# Altium footprint library soed_new.PcbLib: 46 footprints (part 3 of 3)
Each footprint in its own frame and in the unit in brackets; x right, y up, seen from the top. Pads: shape width x height; smd on the part's side, far side on the other; paste and mask are expansions set on the pad; w line width, h text height; cw(c..) or ccw(c..) is an arc to the next point about the centre after c.
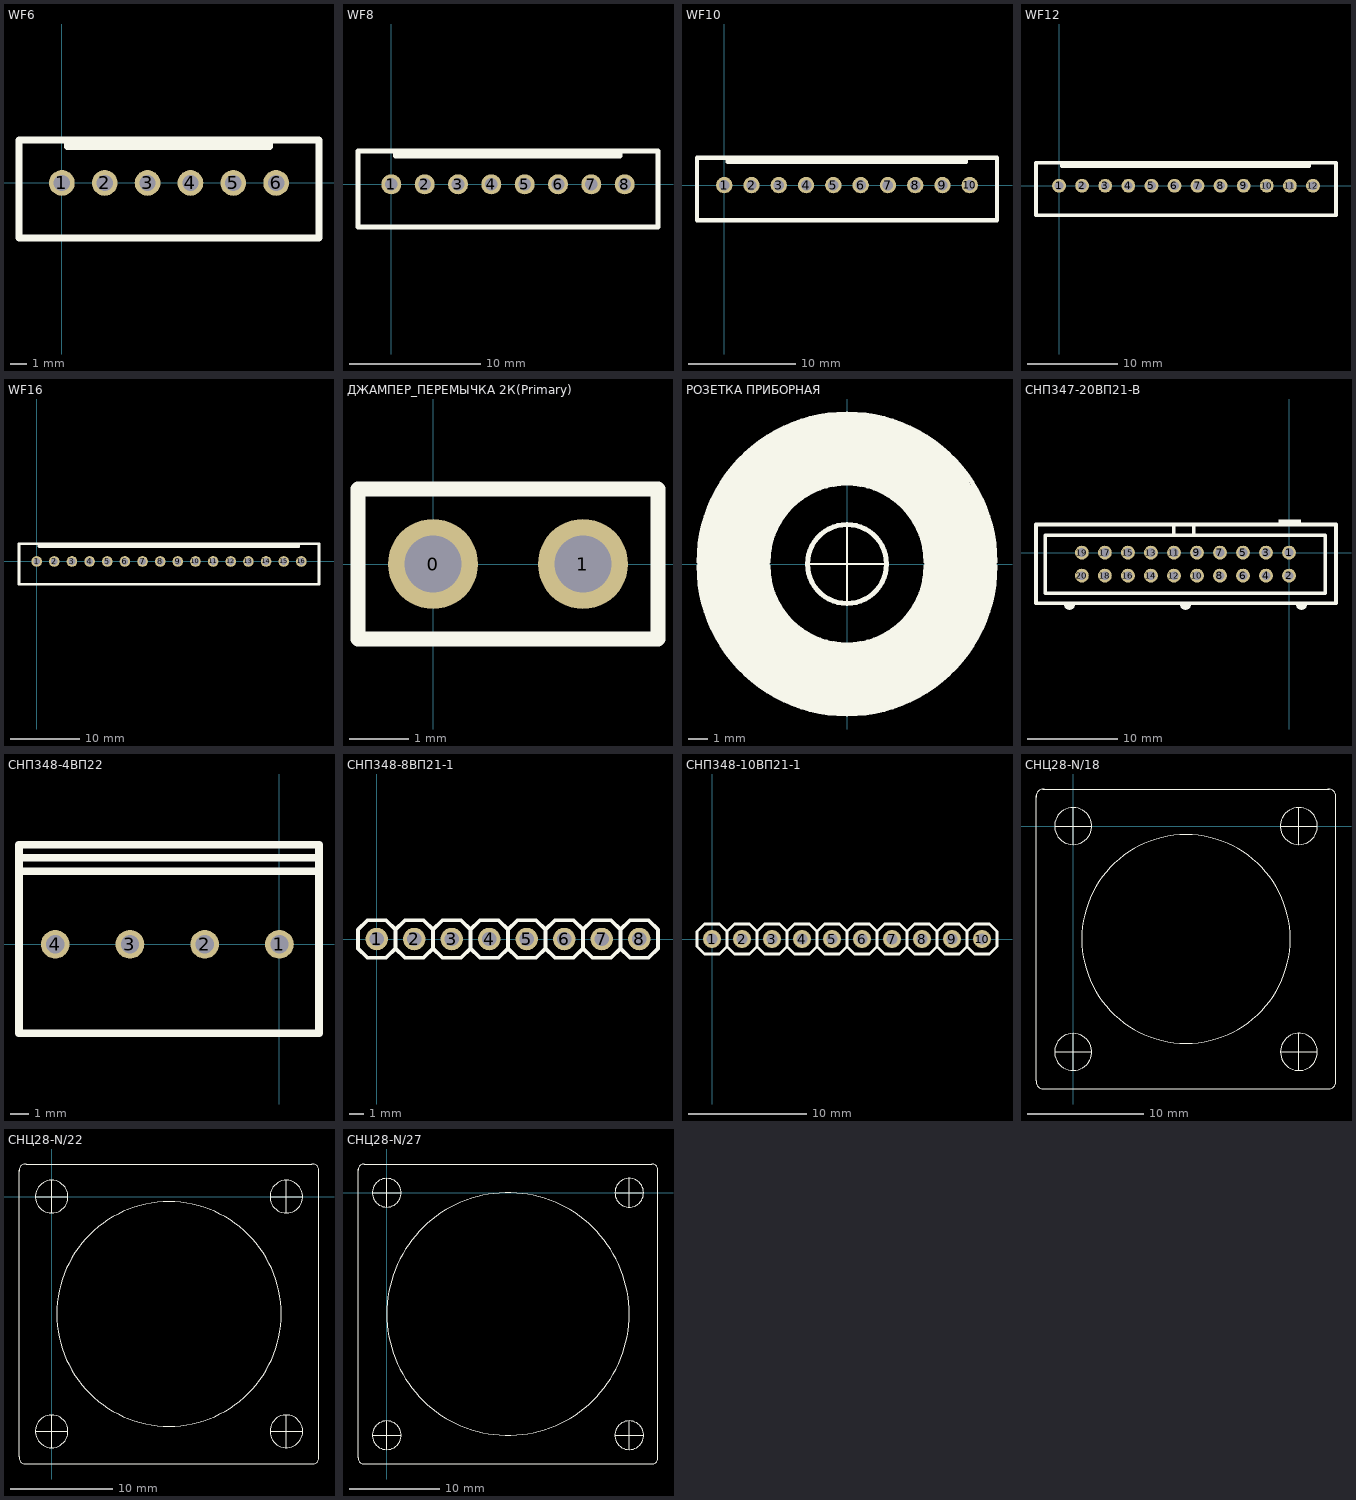
[diagram p2: the footprints below, top view; thin cyan lines are the x and y axes]

## WF6 [mil]
pads (6):
  round 60 hole 38: 1(0,0) 2(100,0) 3(200,0) 4(300,0) 5(400,0) 6(500,0)
Top Overlay:
  lines w15.75: 0,100 -100,100 ; 12.6,96.85 12.6,85.04 485.04,85.04 485.04,96.85 ; -100,100 600,100 600,-128.35 -100,-128.35 -100,100

## WF8 [mil]
pads (8):
  round 60 hole 38: 1(0,0) 2(100,0) 3(200,0) 4(300,0) 5(400,0) 6(500,0) 7(600,0) 8(700,0)
Top Overlay:
  lines w15.75: 0,100 -100,100 ; 12.6,96.85 12.6,85.04 685.83,85.04 685.83,96.85 ; -100,100 800,100 800,-128.35 -100,-128.35 -100,100

## WF10 [mil]
pads (10):
  round 60 hole 38: 1(0,0) 2(100,0) 3(200,0) 4(300,0) 5(400,0) 6(500,0) 7(600,0) 8(700,0) 9(800,0) 10(900,0)
Top Overlay:
  lines w15.75: 0,100 -100,100 ; 12.6,96.85 12.6,85.04 886.61,85.04 886.61,96.85 ; -100,100 1000,100 1000,-128.35 -100,-128.35 -100,100

## WF12 [mil]
pads (12):
  round 60 hole 38: 1(0,0) 2(100,0) 3(200,0) 4(300,0) 5(400,0) 6(500,0) 7(600,0) 8(700,0) 9(800,0) 10(900,0) 11(1000,0) 12(1100,0)
Top Overlay:
  lines w15.75: 0,100 -100,100 ; 12.6,96.85 12.6,85.04 1083.46,85.04 1083.46,96.85 ; -100,100 1200,100 1200,-128.35 -100,-128.35 -100,100

## WF16 [mil]
pads (16):
  round 60 hole 38: 1(0,0) 2(100,0) 3(200,0) 4(300,0) 5(400,0) 6(500,0) 7(600,0) 8(700,0) 9(800,0) 10(900,0) 11(1000,0) 12(1100,0) 13(1200,0) 14(1300,0) 15(1400,0) 16(1500,0)
Top Overlay:
  lines w15.75: 0,100 -100,100 ; 12.6,96.85 12.6,85.04 1485.04,85.04 1485.04,96.85 ; -100,100 1600,100 1600,-128.35 -100,-128.35 -100,100

## ДЖАМПЕР_ПЕРЕМЫЧКА 2К(Primary) [mil]
pads (2):
  round 60 hole 38: 0(0,0) 1(100,0)
Top Overlay:
  lines w10: -50,-50 150,-50 150,50 -50,50 -50,-50

## РОЗЕТКА ПРИБОРНАЯ [mil]
Top Overlay:
  region: -295.28,-15.75 -157.48,-15.75 -149.61,47.24 -129.92,94.49 -82.68,137.8 -35.43,157.48 7.87,161.42 59.06,149.61 110.24,114.17 145.67,62.99 157.48,7.87 157.48,-19.68 295.28,-15.75 295.28,39.37 275.59,114.17 236.22,173.23 204.72,216.54 133.86,267.72 47.24,299.21 -51.18,295.28 -141.73,263.78 -212.6,212.6 -263.78,141.73 -295.28,47.24
  region: -291.34,11.81 -291.34,-43.31 -275.59,-114.17 -228.35,-188.98 -173.23,-240.16 -110.24,-275.59 -27.56,-299.21 70.87,-291.34 141.73,-263.78 208.66,-216.54 255.91,-157.48 287.4,-74.8 295.28,-7.87 161.42,-11.81 141.73,-70.87 110.24,-114.17 66.93,-149.61 11.81,-161.42 -51.18,-153.54 -114.17,-114.17 -149.61,-59.06 -161.42,-7.87
  lines w3.94: -78.74,0 78.74,0 ; 0,-78.74 0,78.74
  lines w10: -295.28,-3.94 ccw(c0,-3.94) 295.28,-3.94 ; -295.28,3.94 cw(c0,3.94) 295.28,3.94 ; -157.48,-3.94 ccw(c0,-3.94) 157.48,-3.94 ; -157.48,3.94 cw(c0,3.94) 157.48,3.94 ; -78.74,0 ccw(c0,0) 78.74,0 ccw(c0,0) -78.74,0

## СНП347-20ВП21-В [mil]
pads (20):
  round 60 hole 38: 1(0,0) 2(0,-100) 3(-100,0) 4(-100,-100) 5(-200,0) 6(-200,-100) 7(-300,0) 8(-300,-100) 9(-400,0) 10(-400,-100) 11(-500,0) 12(-500,-100) 13(-600,0) 14(-600,-100) 15(-700,0) 16(-700,-100) 17(-800,0) 18(-800,-100) 19(-900,0) 20(-900,-100)
Top Overlay:
  region: -44.09,141.73 -44.09,118.11 50.39,118.11 50.39,141.73
  region: 38.58,-216.54 38.58,-232.28 46.46,-240.16 62.2,-240.16 74.02,-220.47
  region: -465.35,-216.54 -465.35,-232.28 -457.48,-240.16 -441.73,-240.16 -429.92,-220.47
  region: -969.29,-216.54 -969.29,-232.28 -961.42,-240.16 -945.67,-240.16 -933.86,-220.47
  lines w15.75: -1059.84,-177.17 -1059.84,74.8 152.76,74.8 ; -1055.91,-177.17 156.69,-177.17 156.69,74.8 ; -969.29,-220.47 ccw(c-953.54,-224.41) -937.8,-220.47 ; -500.79,74.8 -500.79,122.05 ; -465.35,-220.47 ccw(c-449.61,-224.41) -433.86,-220.47 ; -414.17,74.8 -414.17,122.05 ; 38.58,-220.47 ccw(c54.33,-224.41) 70.08,-220.47 ; -1099.21,-220.47 203.94,-220.47 203.94,122.05 -1099.21,122.05 -1099.21,-220.47

## СНП348-4ВП22 [mil]
pads (4):
  round 60 hole 38: 1(0,0) 2(-155.91,0) 3(-311.81,0) 4(-467.72,0)
Top Overlay:
  lines w15.75: -543.31,152.76 82.68,152.76 ; -539.37,180.31 82.68,180.31 ; -543.31,-185.83 82.68,-185.83 82.68,207.87 -543.31,207.87 -543.31,-185.83

## СНП348-8ВП21-1 [mil]
pads (8):
  round 60 hole 38: 1(0,0) 2(100,0) 3(200,0) 4(300,0) 5(400,0) 6(500,0) 7(600,0) 8(700,0)
Top Overlay:
  lines w10: 50,-25 50,25 ; 50,-25 50,25 ; 50,-25 75,-50 125,-50 150,-25 ; 50,-25 25,-50 -25,-50 -50,-25 -50,25 -25,50 25,50 50,25 ; 50,25 75,50 125,50 150,25 ; 150,-25 150,25 ; 150,-25 150,25 ; 150,-25 175,-50 225,-50 250,-25 ; 150,25 175,50 225,50 250,25 ; 250,-25 250,25 ; 250,-25 250,25 ; 250,-25 275,-50 325,-50 350,-25 ; 250,25 275,50 325,50 350,25 ; 350,-25 350,25 ; 350,-25 350,25 ; 350,-25 375,-50 425,-50 450,-25 ; 350,25 375,50 425,50 450,25 ; 450,-25 450,25 ; 450,-25 450,25 ; 450,-25 475,-50 525,-50 550,-25 ; 450,25 475,50 525,50 550,25 ; 550,-25 550,25 ; 550,-25 550,25 ; 550,-25 575,-50 625,-50 650,-25 ; 550,25 575,50 625,50 650,25 ; 650,-25 650,25 ; 650,-25 650,25 ; 650,-25 675,-50 725,-50 750,-25 750,25 725,50 675,50 650,25

## СНП348-10ВП21-1 [mil]
pads (10):
  round 60 hole 38: 1(0,0) 2(100,0) 3(200,0) 4(300,0) 5(400,0) 6(500,0) 7(600,0) 8(700,0) 9(800,0) 10(900,0)
Top Overlay:
  lines w10: 50,-25 50,25 ; 50,-25 50,25 ; 50,-25 75,-50 125,-50 150,-25 ; 50,-25 25,-50 -25,-50 -50,-25 -50,25 -25,50 25,50 50,25 ; 50,25 75,50 125,50 150,25 ; 150,-25 150,25 ; 150,-25 150,25 ; 150,-25 175,-50 225,-50 250,-25 ; 150,25 175,50 225,50 250,25 ; 250,-25 250,25 ; 250,-25 250,25 ; 250,-25 275,-50 325,-50 350,-25 ; 250,25 275,50 325,50 350,25 ; 350,-25 350,25 ; 350,-25 350,25 ; 350,-25 375,-50 425,-50 450,-25 ; 350,25 375,50 425,50 450,25 ; 450,-25 450,25 ; 450,-25 450,25 ; 450,-25 475,-50 525,-50 550,-25 ; 450,25 475,50 525,50 550,25 ; 550,-25 550,25 ; 550,-25 550,25 ; 550,-25 575,-50 625,-50 650,-25 ; 550,25 575,50 625,50 650,25 ; 650,-25 650,25 ; 650,-25 650,25 ; 650,-25 675,-50 725,-50 750,-25 ; 650,25 675,50 725,50 750,25 ; 750,-25 750,25 ; 750,-25 750,25 ; 750,-25 775,-50 825,-50 850,-25 ; 750,-25 750,25 ; 750,25 775,50 825,50 850,25 ; 850,-25 850,25 ; 850,-25 850,25 ; 850,-25 875,-50 925,-50 950,-25 950,25 925,50 875,50 850,25 ; 850,-25 850,25

## СНЦ28-N/18 [mil]
Top Overlay:
  lines w3.94: -125.98,98.42 cw(c-100.39,100.39) -98.42,125.98 ; -125.98,102.36 -125.98,-866.14 ccw(c-100.39,-868.11) -98.42,-893.7 ; -102.36,125.98 870.08,125.98 ; -98.43,-893.7 870.08,-893.7 ; -62.99,-767.72 62.99,-767.72 ; -62.99,0 62.99,0 ; 704.72,0 830.71,0 ; 767.72,-830.71 767.72,-704.72 ; 866.14,-893.7 ccw(c868.11,-868.11) 893.7,-866.14 ; 866.14,125.98 cw(c868.11,100.39) 893.7,98.42 ; 893.7,-870.08 893.7,106.3 ; 0,-830.71 cw(c0,-767.72) 0,-704.72 ; 0,-830.71 ccw(c0,-767.72) 0,-704.72 ; 0,-830.71 0,-704.72 ; 0,-62.99 cw(c0,0) 0,62.99 ; 0,-62.99 ccw(c0,0) 0,62.99 ; 0,-62.99 0,62.99 ; 704.72,-767.72 ccw(c767.72,-767.72) 830.71,-767.72 ; 704.72,-767.72 cw(c767.72,-767.72) 830.71,-767.72 ; 704.72,-767.72 830.71,-767.72 ; 767.72,-62.99 cw(c767.72,0) 767.72,62.99 ; 767.72,-62.99 ccw(c767.72,0) 767.72,62.99 ; 767.72,-62.99 767.72,62.99 ; 29.53,-383.86 cw(c383.86,-383.86) 738.19,-383.86 cw(c383.86,-383.86) 29.53,-383.86

## СНЦ28-N/22 [mil]
Top Overlay:
  lines w3.94: -125.98,98.42 cw(c-100.39,100.39) -98.42,125.98 ; -125.98,102.36 -125.98,-1003.94 ccw(c-100.39,-1005.91) -98.42,-1031.5 ; -98.43,-1031.5 1003.94,-1031.5 ccw(c1005.91,-1005.91) 1031.5,-1003.94 1031.5,102.36 ; -98.43,125.98 1003.94,125.98 cw(c1005.91,100.39) 1031.5,98.42 ; -62.99,-905.51 62.99,-905.51 ; -62.99,0 62.99,0 ; 842.52,0 968.5,0 ; 905.51,-968.5 905.51,-842.52 ; 0,-968.5 cw(c0,-905.51) 0,-842.52 ; 0,-968.5 ccw(c0,-905.51) 0,-842.52 ; 0,-968.5 0,-842.52 ; 0,-62.99 cw(c0,0) 0,62.99 ; 0,-62.99 ccw(c0,0) 0,62.99 ; 0,-62.99 0,62.99 ; 842.52,-905.51 ccw(c905.51,-905.51) 968.5,-905.51 ; 842.52,-905.51 cw(c905.51,-905.51) 968.5,-905.51 ; 842.52,-905.51 968.5,-905.51 ; 905.51,-62.99 cw(c905.51,0) 905.51,62.99 ; 905.51,-62.99 ccw(c905.51,0) 905.51,62.99 ; 905.51,-62.99 905.51,62.99 ; 19.69,-452.76 cw(c452.76,-452.76) 885.83,-452.76 cw(c452.76,-452.76) 19.69,-452.76

## СНЦ28-N/27 [mil]
Top Overlay:
  lines w3.94: -125.98,98.42 cw(c-100.39,100.39) -98.42,125.98 ; -125.98,102.36 -125.98,-1161.42 ccw(c-100.39,-1163.39) -98.42,-1188.98 ; -102.36,-1188.98 1161.42,-1188.98 ccw(c1163.39,-1163.39) 1188.98,-1161.42 1188.98,98.43 ; -98.43,125.98 1161.42,125.98 cw(c1163.39,100.39) 1188.98,98.42 ; -62.99,-1062.99 62.99,-1062.99 ; -62.99,0 62.99,0 ; 1000,-1062.99 1125.98,-1062.99 ; 1062.99,-62.99 1062.99,62.99 ; 0,-1125.98 cw(c0,-1062.99) 0,-1000 ; 0,-1125.98 ccw(c0,-1062.99) 0,-1000 ; 0,-1125.98 0,-1000 ; 0,-62.99 cw(c0,0) 0,62.99 ; 0,-62.99 ccw(c0,0) 0,62.99 ; 0,-62.99 0,62.99 ; 1000,0 cw(c1062.99,0) 1125.98,0 ; 1000,0 ccw(c1062.99,0) 1125.98,0 ; 1000,0 1125.98,0 ; 1062.99,-1125.98 cw(c1062.99,-1062.99) 1062.99,-1000 ; 1062.99,-1125.98 ccw(c1062.99,-1062.99) 1062.99,-1000 ; 1062.99,-1125.98 1062.99,-1000 ; 0,-531.5 cw(c531.5,-531.5) 1062.99,-531.5 cw(c531.5,-531.5) 0,-531.5